# Altium footprint library THD Micro Controllers.PcbLib: 5 footprints
Each footprint in its own frame and in the unit in brackets; x right, y up, seen from the top. Pads: shape width x height; smd on the part's side, far side on the other; paste and mask are expansions set on the pad; w line width, h text height; cw(c..) or ccw(c..) is an arc to the next point about the centre after c.
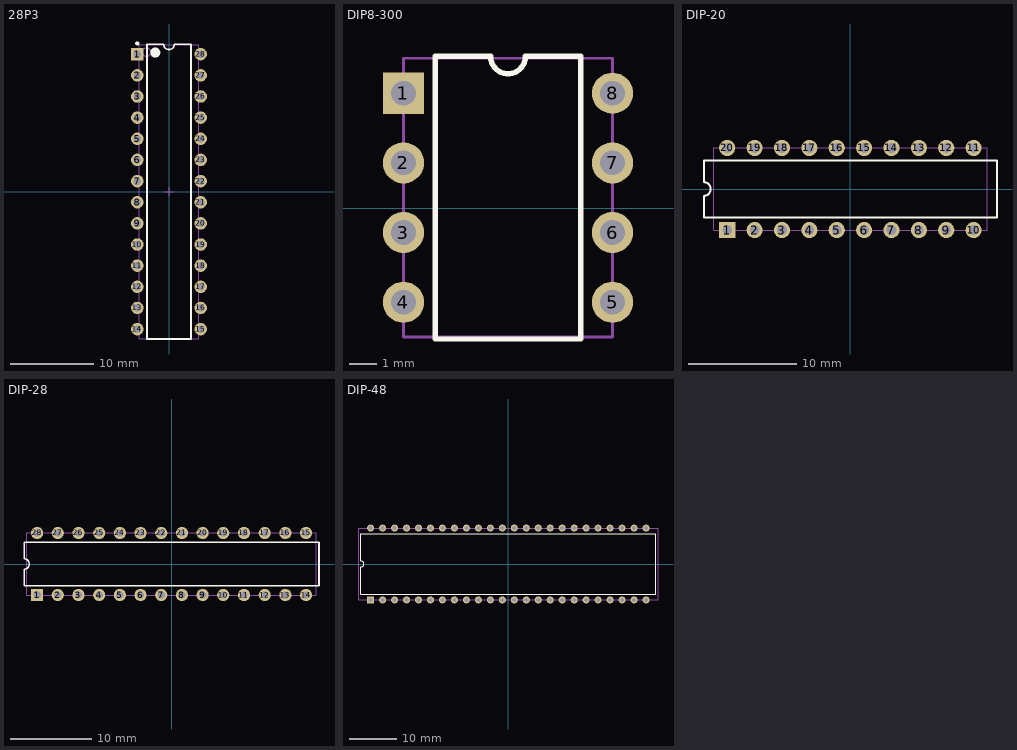
[diagram p0: the footprints below, top view; thin cyan lines are the x and y axes]

## 28P3 [mm] "DIP, 28-Leads, Row Spacing 7.62mm, Pitch 2.54mm, Body 34.67x7.3mm"
height 4.58
pads (28):
  rect 1.5x1.5 hole 0.9: 1(-3.81,16.51)
  round 1.5 hole 0.9: 2(-3.81,13.97) 3(-3.81,11.43) 4(-3.81,8.89) 5(-3.81,6.35) 6(-3.81,3.81) 7(-3.81,1.27) 8(-3.81,-1.27) 9(-3.81,-3.81) 10(-3.81,-6.35) 11(-3.81,-8.89) 12(-3.81,-11.43) 13(-3.81,-13.97) 14(-3.81,-16.51) 15(3.81,-16.51) 16(3.81,-13.97) 17(3.81,-11.43) 18(3.81,-8.89) 19(3.81,-6.35) 20(3.81,-3.81) 21(3.81,-1.27) 22(3.81,1.27) 23(3.81,3.81) 24(3.81,6.35) 25(3.81,8.89) 26(3.81,11.43) 27(3.81,13.97) 28(3.81,16.51)
Top Overlay:
  circle w0.6: c-1.65,16.7 r0.3
  circle w0.25: c-3.81,17.81 r0.125
  lines w0.2: -2.65,-17.7 2.65,-17.7 2.65,17.7 0.635,17.7 cw(c0,17.7) -0.635,17.7 -2.65,17.7 -2.65,-17.7
Mechanical 13:
  circle w0.1: c-2.7,16.75 r0.5
  lines w0.1: -3.6,-17.65 3.6,-17.65 3.6,17.65 -3.6,17.65 -3.6,-17.65
Mechanical 15:
  lines w0.1: -0.5,0 0.5,0 ; 0,-0.5 0,0.5
3D body "DIP28.STEP": height 4.7, standoff -2.6, extent -3.808,-17.6 4.062,17.6

## DIP8-300 [mm] "DIP; 8 Leads; Row Spacing 7.62 mm; Pitch 2.54 mm"
height 5.33
pads (8):
  rect 1.5x1.5 hole 0.9: 1(-11.303,4.191)
  round 1.5 hole 0.9: 2(-11.303,1.651) 3(-11.303,-0.889) 4(-11.303,-3.429) 5(-3.683,-3.429) 6(-3.683,-0.889) 7(-3.683,1.651) 8(-3.683,4.191)
Top Overlay:
  lines w0.2: -10.143,-4.769 -10.143,5.531 -8.128,5.531 ccw(c-7.493,5.531) -6.858,5.531 -4.843,5.531 -4.843,-4.769 -10.143,-4.769
Mechanical 13:
  lines w0.1: -11.303,-4.699 -3.683,-4.699 -3.683,5.461 -11.303,5.461 -11.303,-4.699
3D body "DIP8-300.STEP": height 4.19, standoff -2.67, extent -11.43,-5.207 -3.556,6.223

## DIP-20 [mm] "DIP, Molded; 20 Leads; Row Spacing 7.62 mm; Pitch 2.54 mm"
height 4.83
pads (20):
  rect 1.5x1.5 hole 0.9: 1(-11.43,-3.81)
  round 1.5 hole 0.9: 2(-8.89,-3.81) 3(-6.35,-3.81) 4(-3.81,-3.81) 5(-1.27,-3.81) 6(1.27,-3.81) 7(3.81,-3.81) 8(6.35,-3.81) 9(8.89,-3.81) 10(11.43,-3.81) 11(11.43,3.81) 12(8.89,3.81) 13(6.35,3.81) 14(3.81,3.81) 15(1.27,3.81) 16(-1.27,3.81) 17(-3.81,3.81) 18(-6.35,3.81) 19(-8.89,3.81) 20(-11.43,3.81)
Top Overlay:
  lines w0.2: -13.6,-2.65 -13.6,-0.635 ccw(c-13.6,0) -13.6,0.635 -13.6,2.65 13.6,2.65 13.6,-2.65 -13.6,-2.65
Mechanical 13:
  lines w0.1: -12.7,-3.81 12.7,-3.81 12.7,3.81 -12.7,3.81 -12.7,-3.81
3D body "DIP20-300.STEP": height 4.5, standoff -3.5, extent -12.8,-3.88 12.8,3.88

## DIP-28 [mm] "DIP, Molded; 28 Leads; Row Spacing 7.62 mm; Pitch 2.54 mm"
height 4.83
pads (28):
  rect 1.5x1.5 hole 0.9: 1(-16.51,-3.81)
  round 1.5 hole 0.9: 2(-13.97,-3.81) 3(-11.43,-3.81) 4(-8.89,-3.81) 5(-6.35,-3.81) 6(-3.81,-3.81) 7(-1.27,-3.81) 8(1.27,-3.81) 9(3.81,-3.81) 10(6.35,-3.81) 11(8.89,-3.81) 12(11.43,-3.81) 13(13.97,-3.81) 14(16.51,-3.81) 15(16.51,3.81) 16(13.97,3.81) 17(11.43,3.81) 18(8.89,3.81) 19(6.35,3.81) 20(3.81,3.81) 21(1.27,3.81) 22(-1.27,3.81) 23(-3.81,3.81) 24(-6.35,3.81) 25(-8.89,3.81) 26(-11.43,3.81) 27(-13.97,3.81) 28(-16.51,3.81)
Top Overlay:
  lines w0.2: -18.1,-2.65 18.1,-2.65 18.1,2.65 -18.1,2.65 -18.1,0.635 cw(c-18.1,0) -18.1,-0.635 -18.1,-2.65
Mechanical 13:
  lines w0.1: -17.78,-3.81 -17.78,3.81 17.78,3.81 17.78,-3.81 -17.78,-3.81
3D body "DIP28-300.STEP": height 4.7, standoff -2.6, extent -17.6,-3.935 17.6,3.935

## DIP-48 [mm] "DIP, Sidebraze; 48 Leads; Row Spacing 15.24 mm; Pitch 2.54 mm"
height 5.08
pads (48):
  rect 1.5x1.5 hole 0.9: 1(-29.21,-7.62)
  round 1.5 hole 0.9: 2(-26.67,-7.62) 3(-24.13,-7.62) 4(-21.59,-7.62) 5(-19.05,-7.62) 6(-16.51,-7.62) 7(-13.97,-7.62) 8(-11.43,-7.62) 9(-8.89,-7.62) 10(-6.35,-7.62) 11(-3.81,-7.62) 12(-1.27,-7.62) 13(1.27,-7.62) 14(3.81,-7.62) 15(6.35,-7.62) 16(8.89,-7.62) 17(11.43,-7.62) 18(13.97,-7.62) 19(16.51,-7.62) 20(19.05,-7.62) 21(21.59,-7.62) 22(24.13,-7.62) 23(26.67,-7.62) 24(29.21,-7.62) 25(29.21,7.62) 26(26.67,7.62) 27(24.13,7.62) 28(21.59,7.62) 29(19.05,7.62) 30(16.51,7.62) 31(13.97,7.62) 32(11.43,7.62) 33(8.89,7.62) 34(6.35,7.62) 35(3.81,7.62) 36(1.27,7.62) 37(-1.27,7.62) 38(-3.81,7.62) 39(-6.35,7.62) 40(-8.89,7.62) 41(-11.43,7.62) 42(-13.97,7.62) 43(-16.51,7.62) 44(-19.05,7.62) 45(-21.59,7.62) 46(-24.13,7.62) 47(-26.67,7.62) 48(-29.21,7.62)
Top Overlay:
  lines w0.2: -31.25,-6.45 31.25,-6.45 31.25,6.45 -31.25,6.45 -31.25,0.635 cw(c-31.25,0) -31.25,-0.635 -31.25,-6.45
Mechanical 13:
  lines w0.1: -31.75,-7.62 31.75,-7.62 31.75,7.62 -31.75,7.62 -31.75,-7.62
3D body "DIP48.STEP": height 4.66, standoff -3.28, extent -30.745,-7.874 30.745,7.746
3D body "DIP48.STEP": height 4.66, standoff -3.28, extent -30.745,-7.873 30.745,7.747